# EAGLE library part SATA_POWER (library psumon)
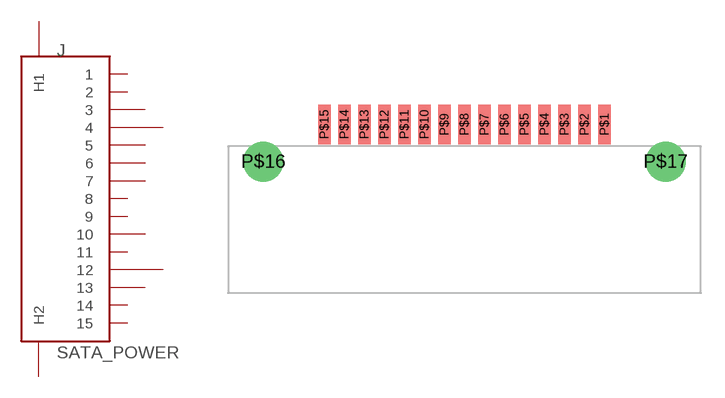
[diagram p0: symbol with the pads of SATA_POWER1; footprint SATA_POWER1]

Designator prefix J

## SATA_POWER1  [SATA_POWER1]
P$1  1  pas
P$2  2  pas
P$3  3  pas
P$4  4  pas
P$5  5  pas
P$6  6  pas
P$7  7  pas
P$8  8  pas
P$9  9  pas
P$10  10  pas
P$11  11  pas
P$12  12  pas
P$13  13  pas
P$14  14  pas
P$15  15  pas
P$16  H1  pas
P$17  H2  pas

## Footprint SATA_POWER1 (pad centres in mm)
smd 0.8 x 2.5: P$1 8.89,0; P$2 7.62,0; P$3 6.35,0; P$4 5.08,0; P$5 3.81,0; P$6 2.54,0; P$7 1.27,0; P$8 0,0; P$9 -1.27,0; P$10 -2.54,0; P$11 -3.81,0; P$12 -5.08,0; P$13 -6.35,0; P$14 -7.62,0; P$15 -8.89,0
drill 1.3 pad 2.54 round: P$16 -12.765,-2.36; P$17 12.765,-2.36